# Altium integrated library RSM850.IntLib: 1 symbol
Pins are listed as number, name and electrical type; pins without a type are passive.

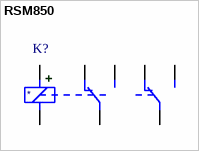
[diagram p0: symbol RSM850]

## RSM850
designator K?
PDF: *; ID: *; BUY_LINK: *; PRICE: *
footprint RSM850
pins: 1, 2, 3, 4, 7, 8, 9, 10